# Altium footprint library SAMTEC-SLW-102-01-X-S.PcbLib: 1 footprints
Each footprint in its own frame and in the unit in brackets; x right, y up, seen from the top. Pads: shape width x height; smd on the part's side, far side on the other; paste and mask are expansions set on the pad; w line width, h text height; cw(c..) or ccw(c..) is an arc to the next point about the centre after c.
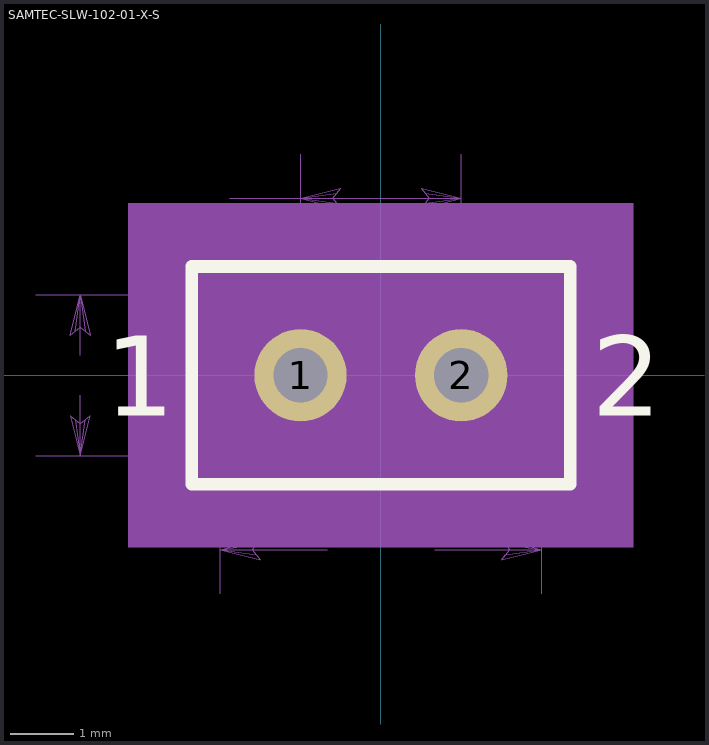
[diagram p0: the footprint, top view; thin cyan lines are the x and y axes]

## SAMTEC-SLW-102-01-X-S [mm]
pads (2):
  round 1.46 hole 0.86 mask+0: 1(-1.27,0) 2(1.27,0)
Top Overlay:
  lines w0.2: -2.99,-1.72 -2.99,1.72 2.99,1.72 2.99,-1.72 -2.99,-1.72
  text "1" at -4.36,-0.635 h1.27
  text "2" at 3.331,-0.635 h1.27
Top Solder:
  circle w0: c-1.27,0 r0.781
  circle w0: c1.27,0 r0.781
Bottom Solder:
  circle w0: c-1.27,0 r0.781
  circle w0: c1.27,0 r0.781
Mechanical 13:
  lines w0: -5.451,-1.27 -3.241,-1.27 ; -5.451,1.27 -3.241,1.27 ; -4.75,-0.318 -4.75,-1.27 ; -4.75,0.318 -4.75,1.27 ; -2.54,-3.452 -2.54,-1.971 ; -2.388,2.794 -1.27,2.794 ; -1.27,0.701 -1.27,3.495 ; -0.851,-2.751 -2.54,-2.751 ; 0.851,-2.751 2.54,-2.751 ; 1.27,0.701 1.27,3.495 ; 2.54,-3.452 2.54,-1.971 ; -4.909,-0.635 -4.75,-1.27 ; -4.909,-0.635 -4.75,-0.762 ; -4.909,-0.635 -4.829,-0.698 -4.75,-1.27 ; -4.75,-1.27 -4.591,-0.635 -4.75,-0.762 ; -4.75,-1.27 -4.67,-0.698 -4.75,-0.762 ; -4.75,-1.27 -4.75,-0.762 ; -4.75,0.762 -4.909,0.635 -4.75,1.27 ; -4.75,0.762 -4.591,0.635 ; -4.75,0.762 -4.829,0.698 -4.75,1.27 ; -4.75,0.762 -4.75,1.27 ; -4.75,1.27 -4.591,0.635 ; -4.75,1.27 -4.67,0.698 -4.591,0.635 ; -2.54,-2.751 -1.905,-2.592 ; -2.54,-2.751 -1.905,-2.91 -2.032,-2.751 ; -2.54,-2.751 -1.968,-2.83 -2.032,-2.751 ; -2.54,-2.751 -2.032,-2.751 ; -2.54,-2.751 -1.968,-2.671 -1.905,-2.592 ; -2.032,-2.751 -1.905,-2.592 ; -1.27,2.794 -0.635,2.953 ; -1.27,2.794 -0.635,2.635 -0.762,2.794 ; -1.27,2.794 -0.698,2.715 -0.762,2.794 ; -1.27,2.794 -0.762,2.794 ; -1.27,2.794 -0.698,2.873 -0.635,2.953 ; -1.27,2.794 1.27,2.794 ; -0.762,2.794 -0.635,2.953 ; 0.635,2.635 1.27,2.794 ; 0.635,2.635 0.762,2.794 ; 0.635,2.635 0.698,2.715 1.27,2.794 ; 0.762,2.794 0.635,2.953 1.27,2.794 ; 0.762,2.794 0.698,2.873 1.27,2.794 ; 0.762,2.794 1.27,2.794 ; 1.905,-2.91 2.54,-2.751 ; 1.905,-2.91 2.032,-2.751 ; 1.905,-2.91 1.968,-2.83 2.54,-2.751 ; 2.032,-2.751 1.905,-2.592 2.54,-2.751 ; 2.032,-2.751 1.968,-2.671 2.54,-2.751 ; 2.032,-2.751 2.54,-2.751
  lines w0.1: -1.714,-0.254 -0.826,-0.254 ; -1.714,0.254 -0.826,0.254 ; 0.826,-0.254 1.714,-0.254 ; 0.826,0.254 1.714,0.254 ; -2.99,-1.72 -2.99,1.72 2.99,1.72 2.99,-1.72 -2.99,-1.72 ; -2.54,-1.016 -2.54,1.016 -2.378,1.016 -2.286,1.27 -0.254,1.27 -0.162,1.016 0,1.016 0.162,1.016 0.254,1.27 2.286,1.27 2.378,1.016 2.54,1.016 2.54,-1.016 2.378,-1.016 2.286,-1.27 0.254,-1.27 0.162,-1.016 0,-1.016 -0.162,-1.016 -0.254,-1.27 -2.286,-1.27 -2.378,-1.016 -2.54,-1.016 ; -1.714,-0.444 -0.826,-0.444 -0.826,0.444 -1.714,0.444 -1.714,-0.444 ; 0.826,-0.444 1.714,-0.444 1.714,0.444 0.826,0.444 0.826,-0.444
  text "1" at -4.36,-0.635 h1.27
  text "2.540" at -5.41,-0.127 h0.25
  text "2.540" at -3.899,2.667 h0.25
  text "5.080" at -0.66,-2.878 h0.25
  text "2" at 3.331,-0.635 h1.27
Mechanical 15:
  region: 3.987,-2.717 -3.987,-2.717 -3.987,2.717 3.987,2.717